# EAGLE library part 2X5(HEADER,2MM) (library Cycfi)
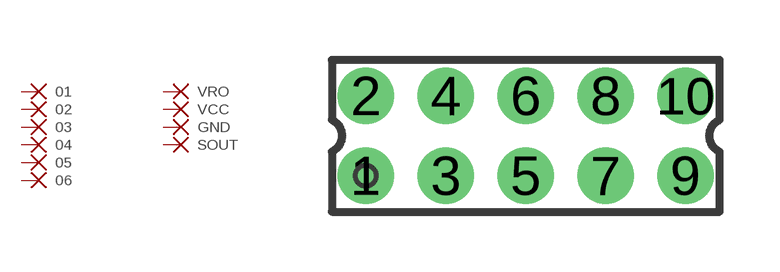
[diagram p0: symbol with the pads of 2X5(2MM,PITCH); footprint 2X5(2MM,PITCH)]

Designator prefix -

## 2X5(HEADER,2MM)  [2X5(2MM,PITCH)]
1  01  pas
2  02  pas
3  03  pas
4  04  pas
5  05  pas
6  06  pas
7  GND  pas
8  SOUT  pas
9  VCC  pas
10  VRO  pas

## Footprint 2X5(2MM,PITCH) (pad centres in mm)
drill 0.9 pad 1.27: 1 -4,-1; 2 -4,1; 3 -2,-1; 4 -2,1; 5 0,-1; 6 0,1; 7 2,-1; 8 2,1; 9 4,-1; 10 4,1